# EAGLE library part 39-30-?20?_S (library con-molex-mini-fit)
HEADER
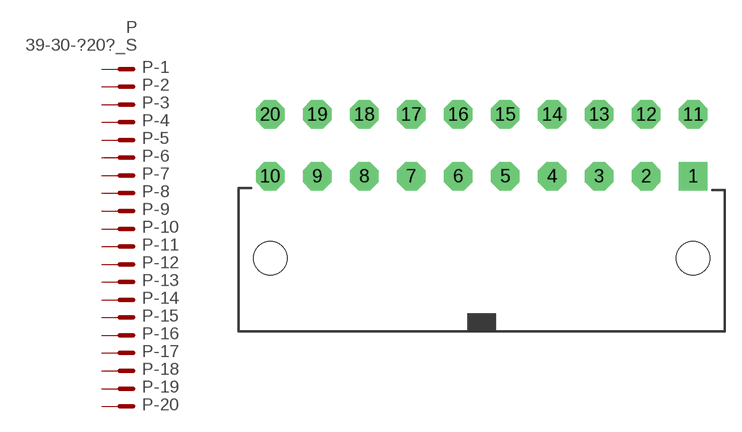
[diagram p17: symbol with the pads of 39-30-?20?; footprint 39-30-?20?]

Designator prefix P; gates -1=P-NV -2=P-N -3=P-N -4=P-N -5=P-N -6=P-N -7=P-N -8=P-N -9=P-N -10=P-N -11=P-N -12=P-N -13=P-N -14=P-N -15=P-N -16=P-N -17=P-N -18=P-N -19=P-N -20=P-N

## 39-30-20_S  [39-30-?20?]
1  -1:P  pas
2  -2:P  pas
3  -3:P  pas
4  -4:P  pas
5  -5:P  pas
6  -6:P  pas
7  -7:P  pas
8  -8:P  pas
9  -9:P  pas
10  -10:P  pas
11  -11:P  pas
12  -12:P  pas
13  -13:P  pas
14  -14:P  pas
15  -15:P  pas
16  -16:P  pas
17  -17:P  pas
18  -18:P  pas
19  -19:P  pas
20  -20:P  pas

## Footprint 39-30-?20? (pad centres in mm)
HEADER
drill 1.422 pad 2.54 square: 1 18.86,0
drill 1.422 pad 2.54 octagon: 2 14.668,0; 3 10.477,0; 4 6.287,0; 5 2.095,0; 6 -2.095,0; 7 -6.287,0; 8 -10.477,0; 9 -14.668,0; 10 -18.86,0; 11 18.86,5.512; 12 14.668,5.512; 13 10.477,5.512; 14 6.287,5.512; 15 2.095,5.512; 16 -2.095,5.512; 17 -6.287,5.512; 18 -10.477,5.512; 19 -14.668,5.512; 20 -18.86,5.512
hole 3 at -18.86,-7.3
hole 3 at 18.86,-7.3